# Altium integrated library Dvig.IntLib: 26 symbols
Pins are listed as number, name and electrical type; pins without a type are passive.

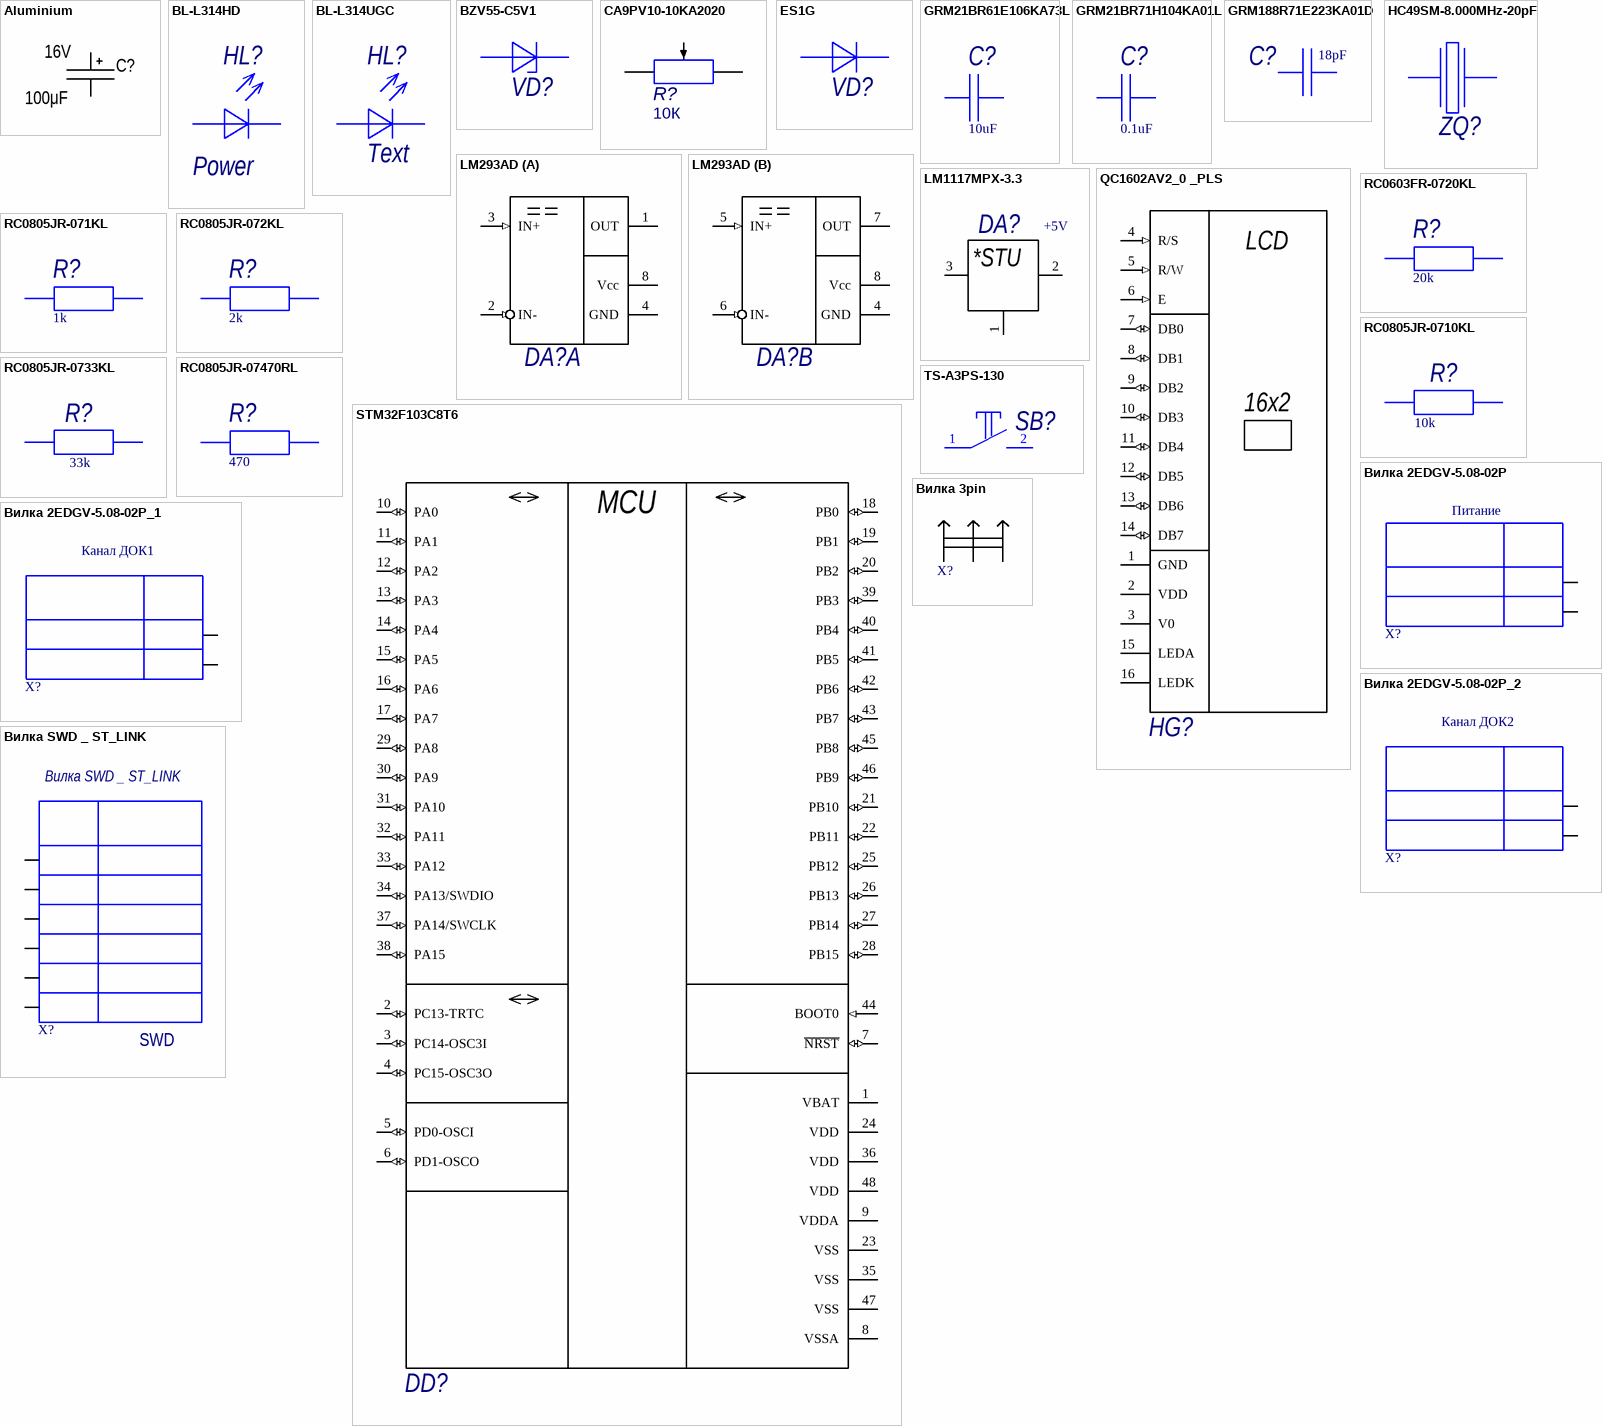
[diagram p0: symbols Aluminium to Вилка SWD _ ST_LINK]

## Aluminium
designator C?  value 100μF  Voltage: 16V
Manufacturer: Wurth; PartNumber: 860080475013; ValueManufacturerPartNumber: Aluminium capacitor, 100μF, 16V, ±20%, 54mOhm, 14x10x5 mm, -55...+105°C; TypeCapacitor: Aluminium capacitor; Tolerance: ±20%; Impedance: 54mOhm; Package: 14x10x5 mm; HelpURL: https://www.digikey.com/product-detail/en/wurth-electronics-inc/860080475013/732-9029-1-ND/5728972; Temperature: -55...+105°C
footprint CAP: D5C2H11
footprint CAP: D6.3C2.5H11
footprint CAP: D6.3C2.5H16
footprint CAP: D8C3.5H12
footprint CAP: D10C5H12.5
footprint CAP: D10C5H16
footprint CAP: D10C5H20
footprint CAP: D13C5H20
footprint CAP: D13C5H25
footprint CAP: D16C7.5H25
footprint CAP: D16C7.5H31.5
footprint CAP: D18C7.5H40
footprint CAP: D22C10.5H25
footprint CAP: D30C10.5H37
footprint CAP: D30C10.5H47
footprint CAP: D35C10.5H40
footprint CAP: D35C10.5H50
pins: 1 (power), 2 (power)

## BL-L314HD
designator HL?, comment Power
Part Number: BL-L314HD; Type: Индикатор единичный; ID: 2; Value: BL-L314HD; Forward Voltage: 2.25V; Forward Current: 25mA; Power Dissipation: 60mW; Color: Red; Leds: 1; Published: 03.12.2013; Publisher: Andrew Danich; Footprint: 3mm; Application Category: 1
footprint LD-3mm-R
pins: 1 А "Анод", 2 К "Катод"
1 alternate drawing of the same symbol

## BL-L314UGC
designator HL?, comment Text
Part Number: BL-L314UGC; Type: Индикатор единичный; ID: 1; Value: BL-L314UGC; Forward Voltage: 2.2V; Forward Current: 30mA; Power Dissipation: 75mW; Color: Ultra Green; Published: 03.12.2013; Publisher: Andrew Danich; Leds: 1; Footprint: 3mm; Application Category: 1
footprint LD-3mm-G
pins: 1 А "Анод", 2 К "Катод"
1 alternate drawing of the same symbol

## BZV55-C5V1
designator VD?, comment Zener  (value not drawn)
Part Number: BZV55-C5V1; Type: Стабилитрон; ID: 1; Value: BZV55-C5V1; Working Voltage: 5.1V; Reverse Current: 2uA; Forward Voltage: 0.9V; Forward Current: 250mA; Total Power Dissipation: 0.5W; Capacitance: 300pF; Differential resistance: 60ohm; Published: 20.05.2013; Publisher: Andrew Danich
footprint SOD-80
pins: 1 А "Анод", 2 К "Катод"

## CA9PV10-10KA2020
designator R?, comment value 10К  (hidden comment: Potentiometer)
Part Number: CA9PV10-10KA2020; ID: 6; Name: Resistor; Nominal value: 10; Units: К; SortUnit: 2; Type: Резистор; ComponentLink1URL: https://static.chipdip.ru/lib/250/DOC000250611.pdf; ComponentLink1Description: Datashet; Footprint: CA9V; ChipdipURL: https://www.chipdip.ru/product0/9000079478
footprint CA9V
pins: 1, 2, 3

## ES1G
designator VD?, comment Diode  (value not drawn)
Part Number: ES1G; Type: Диод; ID: 3; Value: ES1F; Reverse Voltage: 400V; Reverse Current: 5uA; Forward Voltage: 1.3V; Forward Current: 1A; Total Power Dissipation: 1.47W; Capacitance: 10pF; Recovery Time: 35nS; Published: 18.05.2010; Publisher: Andrew Danich
footprint DO-214AC
pins: 1 А "Анод", 2 К "Катод"

## GRM21BR61E106KA73L
designator C?, comment value 10uF  (hidden comment: Capacitor)
Part Number: GRM21BR61E106KA73L; Manufacturer: Murata; Type: Конденсатор; ID: 53; Voltage: 25V; Tolerance: ±10%; Dielectric Type: X5R; Published: 18.05.2010; Publisher: Andrew Danich; Footprint: 0805
footprint C0805
footprint C0805_L
simulation model Capacitor
pins: 1, 2

## GRM21BR71H104KA01L
designator C?, comment value 0.1uF  (hidden comment: Capacitor)
Part Number: GRM21BR71H104KA01L; Manufacturer: Murata; Type: Конденсатор; ID: 138; Voltage: 50V; Tolerance: ±10%; Dielectric Type: X7R; Application Category: 1; Working Temperature Min: -55°С; Working Temperature Max: +125°С; Published: 18.05.2010; Publisher: Andrew Danich; Footprint: 0805
footprint C0805
footprint C0805_L
simulation model Capacitor
pins: 1, 2

## GRM188R71E223KA01D
designator C?, comment value 18pF  (hidden comment: Capacitor)
Part Number: GRM188R71E223KA01D; Manufacturer: Murata; Type: Конденсатор; ID: 128; Voltage: 25V; Tolerance: ±10%; Dielectric Type: X7R; Application Category: 1; Working Temperature Min: -55°С; Working Temperature Max: +125°С; Published: 18.05.2010; Publisher: Andrew Danich; Footprint: 0603
footprint C0603
footprint C0603_L
simulation model Capacitor
pins: 1, 2

## HC49SM-8.000MHz-20pF
designator ZQ?, comment Crystal  (value not drawn)
Part Number: HC49SM-8.000MHz-20pF; ID: 17; Value: HC49S-8.000MHZ-20pF; Output Frequency: 8MHz; Load Capacitance: 20pF; Temperature Coefficient: ±50ppm; Application Category: 1; Published: 08.03.2013; Publisher: Andrew Danich; Type: Резонатор; Footprint: HC-49SM
footprint HC-49SM
pins: 1, 3

## LM293AD
designator DA?, comment COMP_2x_8p  (value not drawn)
Part Number: LM293AD; Manufacturer: Texas Instruments; ID: 3; Value: LM293AD; Supply Operation: +2…36V; Supply Current: 1mA; Input Biasing Current: 100nA; Input Offset Voltage: ±2mV; Channels: 2; Response Time: 1.3uS; Output Saturation Voltage: 400mV; Application Category: 1; Working Temperature Min: -25°C; Working Temperature Max: +85°C; Functional Analog: LM2903MX, LM393MX; Type: Микросхема; Publisher: Viktor Klishin
footprint SOIC-8
pins on every part: 4 GND (power) "Вывод питания от источника отрицательного напряжения", 8 Vcc (power) "Вывод питания от источника положительного напряжения"
part A pins: 1 OUT (oc) "Выход", 2 IN- (in) "Вход инверсный", 3 IN+ (in) "Вход неинверсный"
part B pins: 5 IN+ (in) "Вход неинверсный", 6 IN- (in) "Вход инверсный", 7 OUT (oc) "Выход"

## LM1117MPX-3.3
designator DA?, comment Output Voltage: +5V  (hidden comment: LM1117-Series)
Part Number: LM1117MPX-3.3; ID: 9; Value: LM1117MPX-3.3; Input Voltage: +8.5…20V; Output Current: 800mA; Published: 13.08.2015; Publisher: Andrew Danich; Type: Микросхема
footprint SOT-223
pins: 1 Adj/GND, 2 Out, 3 In
text: *STU

## QC1602AV2_0 _PLS
designator HG?, comment QC1602AV2_0  (value not drawn)
Part Number: QC1602AV2_0 _PLS; ID: 1; Name: LCD16X2; Published: 28.08.2014; Publisher: Andrew Danich; Type: Индикатор графический; ComponentLink1URL: https://www.openhacks.com/uploadsproductos/eone-1602a1.pdf; ComponentLink1Description: Datashet; Footprint: QC1602AV2_0 _PLS; ChipdipURL: https://www.chipdip.ru/product/bcb1602-03; Value: QC1602AV2_0
footprint QC1602AV2_0 _PLS
pins: 1 GND (power) "Общий", 2 VDD (power) "Питание модуля", 3 V0 (power) "Общий", 4 R/S (in) "Сброс", 5 R/W (in) "Чтение/Запись", 6 E (in) "Стробирование данных", 7 DB0 (io) "Шина данных", 8 DB1 (io) "Шина данных", 9 DB2 (io) "Шина данных", 10 DB3 (io) "Шина данных", 11 DB4 (io) "Шина данных", 12 DB5 (io) "Шина данных", 13 DB6 (io) "Шина данных", 14 DB7 (io) "Шина данных", 15 LEDA (power) "Питания подсветки +", 16 LEDK (power) "Питания подсветки -"
text: LCD; 16x2

## RC0603FR-0720KL
designator R?, comment value 20k  (hidden comment: Resistor)
Part Number: RC0603FR-0720KL; Manufacturer: Yageo; ID: 259; Limit Voltage: 50V; Tolerance: ±1%; Temperature Coefficient: 100ppm; Total Power Dissipation: 0.1W; Series Type: Thick-Film; Application Category: 1; Working Temperature Min: -55°С; Working Temperature Max: +155°С; Published: 24.03.2010; Publisher: Andrew Danich; Type: Резистор; Footprint: 0603
footprint R0603
footprint R0603_L
simulation model Resistor
pins: 1, 2

## RC0805JR-071KL
designator R?, comment value 1k  (hidden comment: Resistor)
Part Number: RC0805JR-071KL; Manufacturer: Yageo; ID: 112; Limit Voltage: 150V; Tolerance: ±5%; Temperature Coefficient: 100ppm; Total Power Dissipation: 0.125W; Series Type: Thick-Film; Application Category: 1; Working Temperature Min: -55°С; Working Temperature Max: +155°С; Published: 24.03.2010; Publisher: Andrew Danich; Type: Резистор; Footprint: 0805
footprint R0805
footprint R0805_L
simulation model Resistor
pins: 1, 2

## RC0805JR-072KL
designator R?, comment value 2k  (hidden comment: Resistor)
Part Number: RC0805JR-072KL; Manufacturer: Yageo; ID: 129; Limit Voltage: 150V; Tolerance: ±5%; Temperature Coefficient: 100ppm; Total Power Dissipation: 0.125W; Series Type: Thick-Film; Application Category: 1; Working Temperature Min: -55°С; Working Temperature Max: +155°С; Published: 24.03.2010; Publisher: Andrew Danich; Type: Резистор; Footprint: 0805
footprint R0805
footprint R0805_L
simulation model Resistor
pins: 1, 2

## RC0805JR-0710KL
designator R?, comment value 10k  (hidden comment: Resistor)
Part Number: RC0805JR-0710KL; Manufacturer: Yageo; ID: 99; Limit Voltage: 150V; Tolerance: ±5%; Temperature Coefficient: 100ppm; Total Power Dissipation: 0.125W; Series Type: Thick-Film; Application Category: 1; Working Temperature Min: -55°С; Working Temperature Max: +155°С; Published: 24.03.2010; Publisher: Andrew Danich; Type: Резистор; Footprint: 0805
footprint R0805
footprint R0805_L
simulation model Resistor
pins: 1, 2

## RC0805JR-0733KL
designator R?, comment value 33k  (hidden comment: Resistor)
Part Number: RC0805JR-0733KL; Manufacturer: Yageo; ID: 136; Limit Voltage: 150V; Tolerance: ±5%; Temperature Coefficient: 100ppm; Total Power Dissipation: 0.125W; Series Type: Thick-Film; Application Category: 1; Working Temperature Min: -55°С; Working Temperature Max: +155°С; Published: 24.03.2010; Publisher: Andrew Danich; Type: Резистор; Footprint: 0805
footprint R0805
footprint R0805_L
simulation model Resistor
pins: 1, 2

## RC0805JR-07470RL
designator R?, comment value 470  (hidden comment: Resistor)
Part Number: RC0805JR-07470RL; Manufacturer: Yageo; ID: 144; Limit Voltage: 150V; Tolerance: ±5%; Temperature Coefficient: 100ppm; Total Power Dissipation: 0.125W; Series Type: Thick-Film; Application Category: 1; Working Temperature Min: -55°С; Working Temperature Max: +155°С; Published: 24.03.2010; Publisher: Andrew Danich; Type: Резистор; Footprint: 0805
footprint R0805
footprint R0805_L
simulation model Resistor
pins: 1, 2

## STM32F103C8T6
designator DD?, comment STM32F103Cxxx-Series  (value not drawn)
Part Number: STM32F103C8T6; Manufacturer: STMicroelectronics; ID: 20; Value: STM32F103C8T6; Supply Operation: +2.0…3.6V; Flash: 64K; SRAM: 20K; Prog Interface: JTAG, SWD, UART; I/O Lines: 37; Operation Frequency: 72MHz; Application Category: 1; Working Temperature Min: -40°С; Working Temperature Max: +85°С; Published: 16.10.2015; Publisher: Andrew Danich; Type: Микросхема; EEPROM: -
footprint LQFP-48
pins: 1 VBAT (power), 2 PC13-TRTC (io) "PC13-TAMPER-RTC/PC13/TAMPER-RTC", 3 PC14-OSC3I (io) "PC14-OSC32_IN/PC14/OSC32_IN", 4 PC15-OSC3O (io) "PC15-OSC32_OUT/PC15/OSC32_OUT", 5 PD0-OSCI (io) "PD0/OSC_IN", 6 PD1-OSCO (io) "PD1/OSC_OUT", 7 ~{NRST} (io) "NRST", 8 VSSA (power), 9 VDDA (power), 10 PA0 (io) "PA0-WKUP/PA0/WKUP/USART2_CTS/ADC12_IN0/TIM2_CH1_ETR", 11 PA1 (io) "PA1/USART2_RTS/ADC12_IN1/TIM2_CH2", 12 PA2 (io) "PA2/USART2_TX/ADC12_IN2/TIM2_CH3", 13 PA3 (io) "PA3/USART2_RX/ADC12_IN3/TIM2_CH4", 14 PA4 (io) "PA4/SPI1_NSS/USART2_CK/ADC12_IN4", 15 PA5 (io) "PA5/SPI1_SCK/ADC12_IN5", 16 PA6 (io) "PA6/SPI1_MISO/ADC12_IN6/TIM3_CH1/TIM1_BKIN", 17 PA7 (io) "PA7/SPI1_MOSI/ADC12_IN7/TIM3_CH2/TIM1_CH1N", 18 PB0 (io) "PB0/ADC12_IN8/TIM3_CH3/TIM1_CH2N", 19 PB1 (io) "PB1/ADC12_IN9/TIM3_CH4/TIM1_CH3N", 20 PB2 (io) "PB2/BOOT1", 21 PB10 (io) "PB10/I2C2_SCL/USART3_TX/TIM2_CH3", 22 PB11 (io) "PB11/I2C2_SDA/USART3_RX/TIM2_CH4", 23 VSS (power) "VSS_1", 24 VDD (power) "VDD_1", 25 PB12 (io) "PB12/SPI2_NSS/I2C2_SMBAl/USART3_CK/TIM1_BKIN", 26 PB13 (io) "PB13/SPI2_SCK/USART3_CTS/TIM1_CH1N", 27 PB14 (io) "PB14/SPI2_MISO/USART3_RTS/TIM1_CH2N", 28 PB15 (io) "PB15/SPI2_MOSI/TIM1_CH3N", 29 PA8 (io) "PA8/USART1_CK/TIM1_CH1/MCO", 30 PA9 (io) "PA9/USART1_TX/TIM1_CH2", 31 PA10 (io) "PA10/USART1_RX/TIM1_CH3", 32 PA11 (io) "PA11/USART1_CTS/CANRX/USBDM/TIM1_CH4", 33 PA12 (io) "PA12/USART1_RTS/CANTX/USBDP/TIM1_ETR", 34 PA13/SWDIO (io) "PA13/JTMS/SWDIO", 35 VSS (power) "VSS_2", 36 VDD (power) "VDD_2", 37 PA14/SWCLK (io) "PA14/JTCK/SWCLK", 38 PA15 (io) "PA15/JTDI/TIM2_CH1_ETR/SPI1_NSS", 39 PB3 (io) "PB3/JTDO/TIM2_CH2/TRACESWO/SPI1_SCK", 40 PB4 (io) "PB4/NJTRST/TIM3_CH1/SPI1_MISO", 41 PB5 (io) "PB5/I2C1_SMBAI/TIM3_CH2/SPI1_MOSI", 42 PB6 (io) "PB6/I2C1_SCL/TIM4_CH1/USART1_TX", 43 PB7 (io) "PB7/I2C1_SDA/TIM4_CH2/USART1_RX", 44 BOOT0 (in), 45 PB8 (io) "PB8/TIM4_CH3/I2C1_SCL/CANRX", 46 PB9 (io) "PB9/TIM4_CH4/I2C1_SDA/CANTX", 47 VSS (power) "VSS_3", 48 VDD (power) "VDD_3"
text: MCU

## TS-A3PS-130
designator SB?, comment Text  (value not drawn)
Part Number: TS-A3PS-130; ID: 24; Value: TS-A3PS-130; Limit Voltage: 250V; Limit Current: 50mA; Resistance: 0.1ohm; Isolator Resistance: 100meg; Backlight: NO; Number of Contacts: 4; Application Category: 1; Published: 17.04.2014; Publisher: Andrew Danich; Type: Переключатель; Height: 7mm
footprint TS-A3PS
pins: 1, 2

## Вилка 2EDGV-5.08-02P
designator X?, comment Питание
footprint 2EDGV-5.0-02P-14 (Pin Header 5mm)
pins: 1 PIN2, 2 PIN1

## Вилка 2EDGV-5.08-02P_1
designator X?, comment Канал ДОК1
footprint 2EDGV-5.0-02P-14 (Pin Header 5mm)
pins: 1 PIN2, 2 PIN1

## Вилка 2EDGV-5.08-02P_2
designator X?, comment Канал ДОК2
footprint 2EDGV-5.0-02P-14 (Pin Header 5mm)
pins: 1 PIN2, 2 PIN1

## Вилка 3pin
designator X?, comment Разъем PLS-3  (value not drawn)
Вилка штыревая 2.54мм 1x3 прямая в отверстия
footprint HDR1X3
pins: 1, 2, 3

## Вилка SWD _ ST_LINK
designator X?  value SWD
Вилка 2x3 pin 2.54 mm в отверстия
footprint PLD6 (Connector; Header; 3x2 Position)
pins: 1 VCC, 2 TDO, 3 GND, 4, 5, 6